# Altium footprint library SparkFun-Resistors.PCBLIB: 28 footprints (part 2 of 2)
Each footprint in its own frame and in the unit in brackets; x right, y up, seen from the top. Pads: shape width x height; smd on the part's side, far side on the other; paste and mask are expansions set on the pad; w line width, h text height; cw(c..) or ccw(c..) is an arc to the next point about the centre after c.
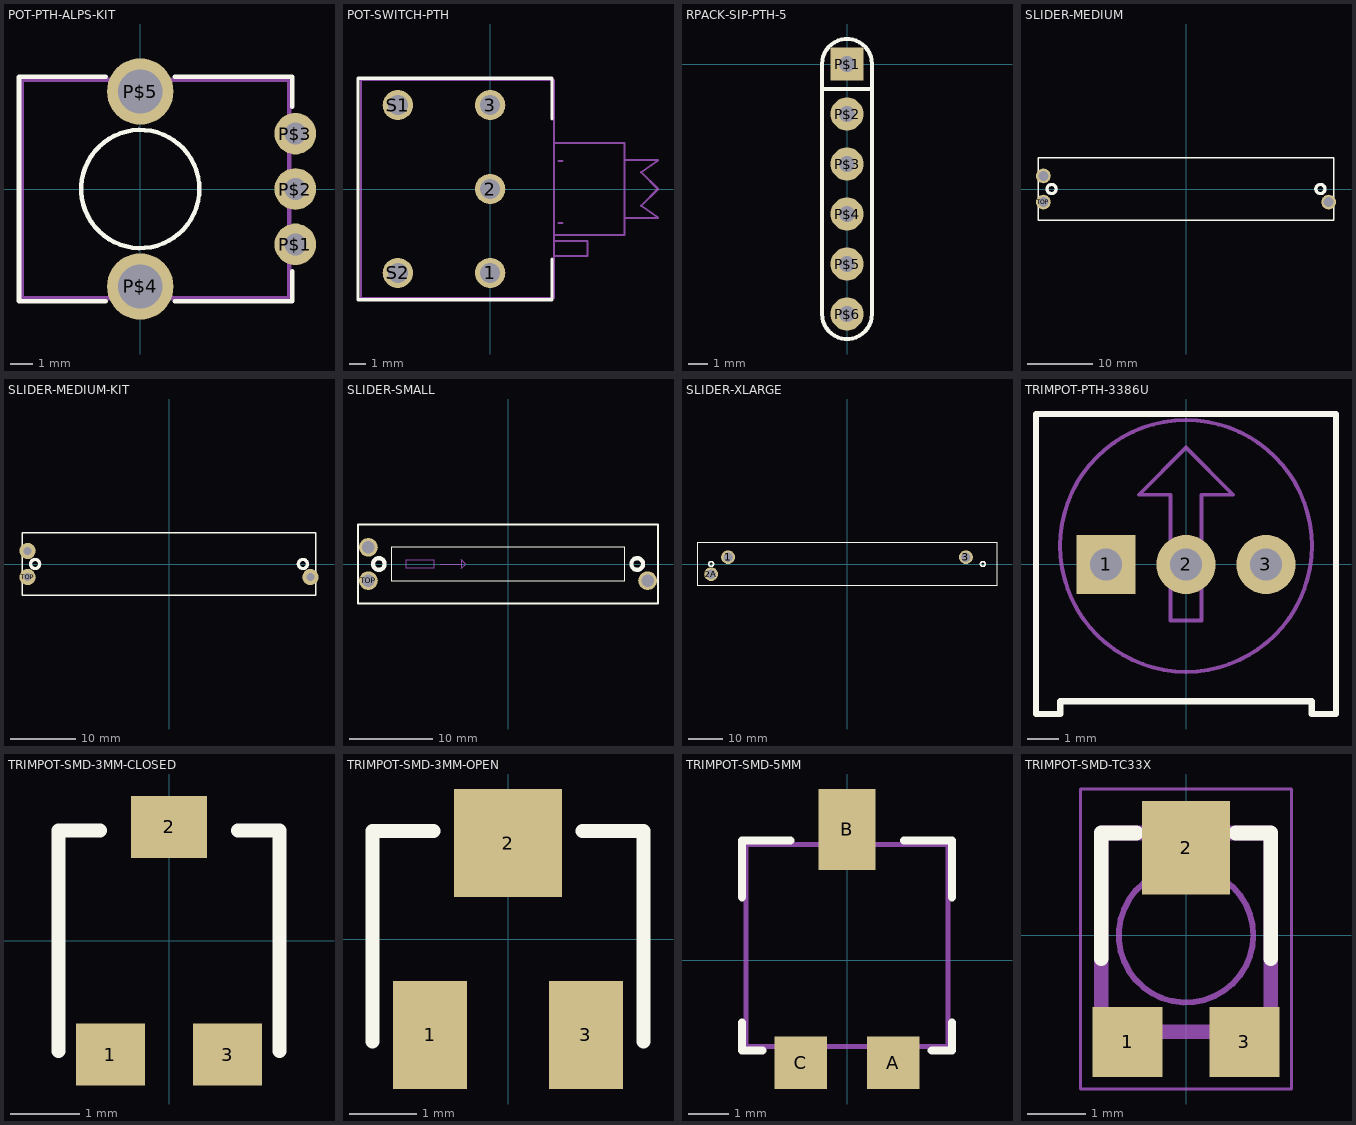
[diagram p1: the footprints below, top view; thin cyan lines are the x and y axes]

## POT-PTH-ALPS-KIT [mm]
pads (5):
  round 1.88 hole 1: P$1(7,-2.5) P$2(7,0) P$3(7,2.5)
  round 3 hole 2: P$4(0,-4.4) P$5(0,4.4)
Top Overlay:
  circle w0.203: c0,0 r2.667
  lines w0.203: -1.55,-5.057 -5.473,-5.057 -5.473,5.057 -1.55,5.057 ; 1.55,-5.057 6.857,-5.057 6.857,-3.706 ; 1.55,5.057 6.857,5.057 6.857,3.706
Top Solder:
  circle w0: c0,4.4 r1
  circle w0: c0,-4.4 r1
  circle w0: c7,2.5 r0.5
  circle w0: c7,0 r0.5
  circle w0: c7,-2.5 r0.5
Bottom Solder:
  circle w0: c0,-4.4 r1.626
  circle w0: c7,2.5 r1.067
  circle w0: c7,0 r1.067
  circle w0: c7,-2.5 r1.067
  circle w0: c0,4.4 r1.626
Mechanical 16:
  lines w0.203: -5.346,-4.93 6.73,-4.93 6.73,4.93 -5.346,4.93 -5.346,-4.93

## POT-SWITCH-PTH [mm]
pads (5):
  round 1.8 hole 1.2: 1(0,-5) 2(0,0) 3(0,5) S1(-5.5,5) S2(-5.5,-5)
Top Overlay:
  lines w0.203: 3.683,-4.191 3.683,-6.604 -7.874,-6.604 -7.874,6.604 3.683,6.604 3.683,4.191
Mechanical 16:
  lines w0.127: 4.064,-2.016 4.318,-2.016 ; 4.064,1.667 4.318,1.667 ; 10,-1.73 8,-1.73 ; 10,-1.7 9,-1 10,0 9,1 10,1.7 ; 10,1.73 8,1.73 ; 3.8,-4 3.8,-3.1 ; 3.8,-4 3.8,-6.5 -7.7,-6.5 -7.7,6.5 3.8,6.5 3.8,2.73 ; 3.8,-4 5.8,-4 5.8,-3.1 3.8,-3.1 ; 3.8,-3.1 3.8,-2.73 ; 3.8,-2.73 3.8,2.73 ; 3.8,-2.73 8,-2.73 8,-1.73 ; 3.8,2.73 8,2.73 8,1.73 ; 8,-1.73 8,1.73
  text "mounting surface" at 4.699,-2.27 h0.63
  text "*2.8mm diameter x 2mm tab at 9 o'clock (from front)" at 6.28,-3.72 h0.63

## RPACK-SIP-PTH-5 [mil]
pads (6):
  rect 66x66 hole 31.5: P$1(0,0)
  round 66 hole 31.5: P$2(0,-100) P$3(0,-200) P$4(0,-300) P$5(0,-400) P$6(0,-500)
Top Overlay:
  lines w8: -50,-50 -50,0 cw(c0,0) 50,0 50,-50 ; -50,-50 -50,-500 ccw(c0,-500) 50,-500 50,-50 ; -50,-50 50,-50

## SLIDER-MEDIUM [mm]
pads (3):
  round 2.25 hole 1.5: BOTTOM(21.75,-2) TOP(-21.75,-2) WIPER(-21.75,2)
Top Overlay:
  circle w0.5: c-20.5,0 r0.7
  circle w0.5: c20.5,0 r0.7
  lines w0.203: -22.5,-4.75 22.5,-4.75 22.5,4.75 -22.5,4.75 -22.5,-4.75

## SLIDER-MEDIUM-KIT [mm]
pads (3):
  round 2.5 hole 1.2: BOTTOM(21.65,-2) TOP(-21.65,-2) WIPER(-21.65,2)
Top Overlay:
  circle w0.5: c-20.5,0 r0.7
  circle w0.5: c20.5,0 r0.7
  lines w0.203: -22.5,-4.75 22.5,-4.75 22.5,4.75 -22.5,4.75 -22.5,-4.75
Top Solder:
  circle w0: c-21.65,2 r0.6
  circle w0: c-21.65,-2 r0.6
  circle w0: c21.65,-2 r0.6
Bottom Solder:
  circle w0: c-21.65,2 r1.315
  circle w0: c-21.65,-2 r1.315
  circle w0: c21.65,-2 r1.315
Mechanical 16:
  rectangle: -22,1.5 -21.5,2.5
  rectangle: -22,-2.5 -21.5,-1.5
  rectangle: 21.5,-2.5 22,-1.5

## SLIDER-SMALL [mm]
pads (3):
  round 2.25 hole 1.5: BOTTOM(16.75,-2) TOP(-16.75,-2) WIPER(-16.75,2)
Top Overlay:
  circle w0.5: c-15.5,0 r0.7
  circle w0.5: c15.5,0 r0.7
  lines w0.127: -14,-2 -14,2 14,2 14,-2 -14,-2
  lines w0.203: -18,-4.75 18,-4.75 18,4.75 -18,4.75 -18,-4.75
Mechanical 13:
  lines w0.127: -8.128,0 -5.588,0 ; -5.588,0 -5.588,-0.508 -5.08,0 -5.588,0.508 -5.588,0 ; -12.192,-0.508 -8.89,-0.508 -8.89,0.508 -12.192,0.508 -12.192,-0.508

## SLIDER-XLARGE [mil]
pads (3):
  round 160 hole 110.24: 1(-1377.95,78.74) 2A(-1574.8,-118.11) 3(1377.95,78.74)
Top Overlay:
  circle w19.69: c-1574.8,0 r27.56
  circle w19.69: c1574.8,0 r27.56
  lines w8: -1738.19,-246.06 1738.19,-246.06 1738.19,246.06 -1738.19,246.06 -1738.19,-246.06

## TRIMPOT-PTH-3386U [mil]
pads (3):
  rect 74x74 hole 40: 1(-100,-0.59)
  round 74 hole 40: 2(0,-0.59) 3(100,-0.59)
Top Overlay:
  lines w8: -187.6,-187.6 -157.48,-187.6 -157.48,-171.85 157.48,-171.85 157.48,-187.6 187.6,-187.6 187.6,187.6 -187.6,187.6 -187.6,-187.6
Mechanical 16:
  circle w5: c0,22.64 r157.48
  lines w5: -59.06,86.61 -19.69,86.61 -19.69,-70.87 19.69,-70.87 19.69,86.61 59.06,86.61 0,145.67 -59.06,86.61

## TRIMPOT-SMD-3MM-CLOSED [mm]
pads (3):
  rect 1x0.9 smd: 1(-0.85,-1.65) 3(0.85,-1.65)
  rect 1.1x0.9 smd: 2(0,1.65)
Top Overlay:
  lines w0.203: -1.6,-1.6 -1.6,1.6 -1,1.6 ; 1,1.6 1.6,1.6 1.6,-1.6

## TRIMPOT-SMD-3MM-OPEN [mil]
pads (3):
  rect 43x63 smd: 1(-45.46,-55.96) 3(45.46,-55.96)
  rect 63x63 smd: 2(0,55.96)
Top Overlay:
  lines w8: -78.99,-59.99 -78.99,62.99 -43.37,62.99 ; 43.37,62.99 78.99,62.99 78.99,-59.99

## TRIMPOT-SMD-5MM [mm]
pads (3):
  rect 1.3x1.3 smd: A(1.15,-2.54) C(-1.15,-2.54)
  rect 1.402x2 smd: B(0,3.238)
Top Overlay:
  lines w0.203: -2.6,-1.54 -2.6,-2.24 -2.094,-2.24 ; -2.6,1.56 -2.6,2.96 -1.4,2.96 ; 1.409,2.96 2.6,2.96 2.6,1.56 ; 2.1,-2.24 2.6,-2.24 2.6,-1.54
Mechanical 16:
  lines w0.127: -2.5,-2.14 -2.5,2.86 2.5,2.86 2.5,-2.14 -2.5,-2.14

## TRIMPOT-SMD-TC33X [mm]
pads (3):
  rect 1.2x1.2 smd: 1(-1,-1.825) 3(1,-1.825)
  rect 1.5x1.6 smd: 2(0,1.5)
Top Overlay:
  lines w0.254: -1.45,-0.4 -1.45,1.75 -0.85,1.75 ; 0.85,1.75 1.45,1.75 1.45,-0.4
Mechanical 16:
  circle w0.102: c0,0 r1.15
  lines w0.254: -1.45,-1.65 -1.45,1.75 1.45,1.75 1.45,-1.65 -1.45,-1.65
Mechanical 27:
  lines w0.051: -1.803,-2.629 1.803,-2.629 1.803,2.502 -1.803,2.502 -1.803,-2.629